# Altium schematic symbol library Jumper.SchLib: 1 symbol
Pins are listed as number, name and electrical type; pins without a type are passive.

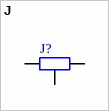
[diagram p0: symbol J]

## J
designator J?
Solder jumper
footprint solder_jumper
pins: 1, 2, 3